# EAGLE library part MILL-MAX_811_SPRING_LOADED_CONNECTOR_10 (library m_connector)
MILL-MAX Series 811 Spring-Loaded Connectors, 10 Contacts Modular contacts for use on 2,54mm grid, available in five heights from 3,48mm to 5,99mm, supplied in single and double row contact strips. Precision-machined piston/base and gold-plated components assure a 1,000,000 cycle life durability Pistons have a long stroke relative to the low profile of the assembly Low resistance, high current contacts are rated at 2 amps continuous, 3amps peak High temperature thermoplastic insulators are suitable for surface mount processes Both 811 & 813 series, contact styles 1 through 4, are available on 32mm wide carrier tape and fitted with vacuum pick-up clips for automated pick and place assembly. Tape and Reel packaging per EIA-481. See page 12 for strip lengths available and ordering information. Specifications Materials: Contact piston & base: Machined copper alloy plated 0,51μm gold over 2,54μm nickel Spring: Beryllium copper-plated 0,25μm gold Insulator: High temperature thermoplastic, rated UL94 V-0 Mechanical: Spring force @ initial height (A): 25 grams Spring force @ mid stroke (B/2): 60 grams Durability: 1,000,000 cycles Coplanarity: 0,13 (Single Row up to 10 pins; Double Row up to 20 pins), For higher pin counts, contact Technical Support Electrical: Voltage rating: 100Vrms/150Vdc Current rating: 2A (continous), 3A (peak) per contact Contact resistance: 20mW max. Insulation resistance: 10,000MW min. Dielectric strength: 700Vrms min. Capacitance: 1pF max. Ordering Information Single Row Series 811 811-22-0XX-30-00X101 Specify number of contacts 01-64 ↑ ↑ Specify contact style 0-4 Double Row Series 813 813-22-0XX-30-00X101 Specify number of contacts 04-72 ↑ ↑ Specify contact style 0-4 Contact Style Initial Height A Max. Stroke B 0 3,48 0,99 1 4,50 1,14 2 5,0 1,39 3 5,51 1,39 4 5,99 1,39 Added 2016-07-19
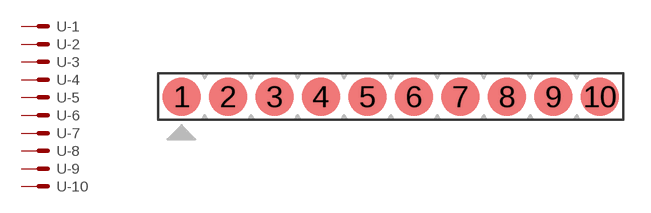
[diagram p12: symbol with the pads of MILL-MAX_811-22-010-30; footprint MILL-MAX_811-22-010-30]

Designator prefix -; gates -1=M -2=M -3=M -4=M -5=M -6=M -7=M -8=M -9=M -10=M

## MILL-MAX_811_SPRING_LOADED_CONNECTOR_10 (MANUF: MILL-MAX; PARTNUM: 811-22-010-30-00X101)  [MILL-MAX_811-22-010-30]
1  -1:S  pas
2  -2:S  pas
3  -3:S  pas
4  -4:S  pas
5  -5:S  pas
6  -6:S  pas
7  -7:S  pas
8  -8:S  pas
9  -9:S  pas
10  -10:S  pas

## Footprint MILL-MAX_811-22-010-30 (pad centres in mm)
MILL-MAX Series 811 Spring-Loaded Connectors, 10 Contacts Single row series 811 Added 2016-07-19
smd 2.1 x 2.1: 1 -11.43,0; 2 -8.89,0; 3 -6.35,0; 4 -3.81,0; 5 -1.27,0; 6 1.27,0; 7 3.81,0; 8 6.35,0; 9 8.89,0; 10 11.43,0